# Altium schematic symbol library Schlib1.SchLib: 14 symbols
Pins are listed as number, name and electrical type; pins without a type are passive.

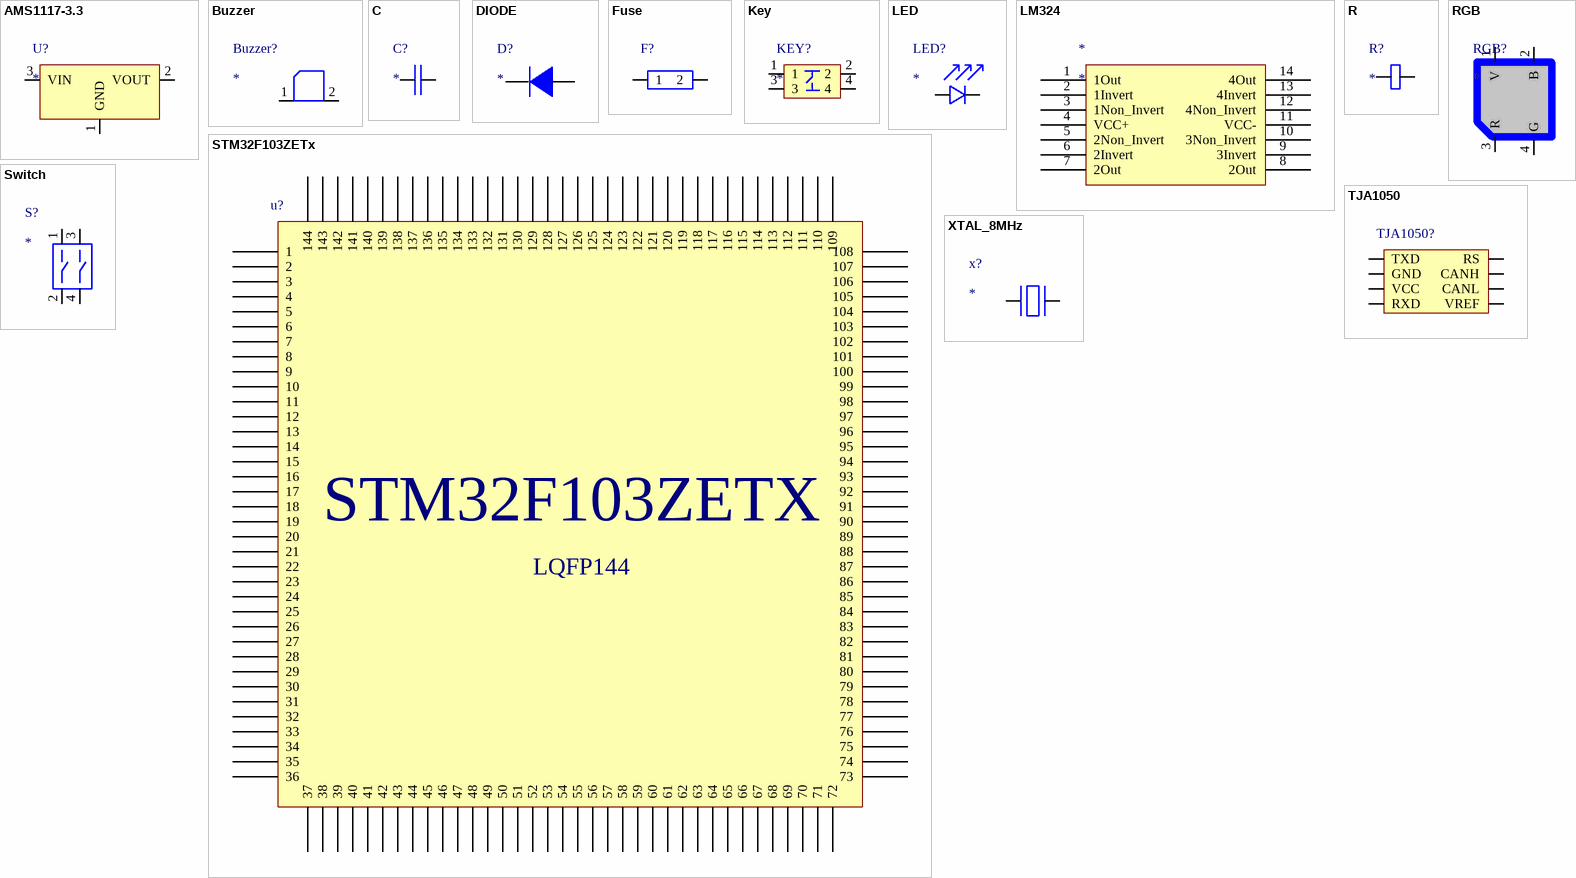
[diagram p0: symbols AMS1117-3.3 to XTAL_8MHz]

## AMS1117-3.3
designator U?
footprint ASM1117 (SOT223, 4-Leads, Body 6.51x7.00mm (avg), Pitch 2.30mm, IPC Medium Density)
pins: 1 GND, 2 VOUT, 3 VIN

## Buzzer
designator Buzzer?
footprint BUZZER
pins: 1, 2

## C
designator C?
footprint 0402
pins: 1, 2

## DIODE
designator D?
pins: 1, 2

## Fuse
designator F?
footprint 0805
pins: 1, 2

## Key
designator KEY?
pins: 1, 2, 3, 4

## LED
designator LED?
footprint 0603
pins: 1, 2

## LM324
designator *
footprint LM324 (SOIC, 14-Leads, Body 8.65x3.90mm, Pitch 1.27mm, IPC Medium Density)
pins: 1 1Out, 2 1Invert, 3 1Non_Invert, 4 VCC+, 5 2Non_Invert, 6 2Invert, 7 2Out, 8 2Out, 9 3Invert, 10 3Non_Invert, 11 VCC-, 12 4Non_Invert, 13 4Invert, 14 4Out

## R
designator R?
footprint 0402
footprint 0603
pins: 1, 2

## RGB
designator RGB?
footprint RGB_LED
pins: 1 V, 2 B, 3 R, 4 G

## STM32F103ZETx
designator u?
footprint STM32F103ZETx (TSQFP, 144-Leads, Body 20.00x20.00mm, Pitch 0.50mm, IPC Medium Density)
pins: 1, 2, 3, 4, 5, 6, 7, 8, 9, 10, 11, 12, 13, 14, 15, 16, 17, 18, 19, 20, 21, 22, 23, 24, 25, 26, 27, 28, 29, 30, 31, 32, 33, 34, 35, 36, 37, 38, 39, 40, 41, 42, 43, 44, 45, 46, 47, 48, 49, 50, 51, 52, 53, 54, 55, 56, 57, 58, 59, 60, 61, 62, 63, 64, 65, 66, 67, 68, 69, 70, 71, 72, 73, 74, 75, 76, 77, 78, 79, 80, 81, 82, 83, 84, 85, 86, 87, 88, 89, 90, 91, 92, 93, 94, 95, 96, 97, 98, 99, 100, 101, 102, 103, 104, 105, 106, 107, 108, 109, 110, 111, 112, 113, 114, 115, 116, 117, 118, 119, 120, 121, 122, 123, 124, 125, 126, 127, 128, 129, 130, 131, 132, 133, 134, 135, 136, 137, 138, 139, 140, 141, 142, 143, 144
text: STM32F103ZETX; LQFP144

## Switch
designator S?
footprint SWITCH_2P
pins: 1 154, 2 156, 3 155, 4 157

## TJA1050
designator TJA1050?
footprint TJA1050 (SOIC, 8-Leads, Body 4.90x3.90mm, Pitch 1.27mm, IPC Medium Density)
pins: 1 TXD, 2 GND, 3 VCC, 4 RXD, 5 VREF, 6 CANL, 7 CANH, 8 RS

## XTAL_8MHz
designator x?
footprint 8M晶振
pins: 1, 2